# EAGLE library part 736-404 (library con-wago_736)
Serie 736, Doppelstock-Klemmenleiste für Leiterplatten 2 Lötstifte um das halbe Rastermaß versetzt / Series 736, Double-deck PCB terminal strip 2 solder pins staggered by half the pin spacing Polzahl / Pole No.: 4 Rastermaß / Pitch: 5.08 mm Bemessungsspannung / Rated Voltage: 320 V Nennstrom / Nominal Current: 21 A Leiterquerschnitt / Conductor Size: 0.08 - 2.5 mm² Anschlusstechnik / Connection Technology: CAGE CLAMP® Lötstiftlänge: / Solder Pin Length: 4 mm Leitereinführung (zur Platine) / Conductor entry angle (to PCB): 45 ° Farbe / Color: orange / orange Stand: 01.01.2012. Die jeweils aktuellen Daten zu diesem Artikel finden Sie in unserem Produktkatalog, den Sie unter www.wago.com einsehen können. As of: 01/01/2012. Please find the newest data for this article in our product catalogue, which can be viewed under www.wago.com.
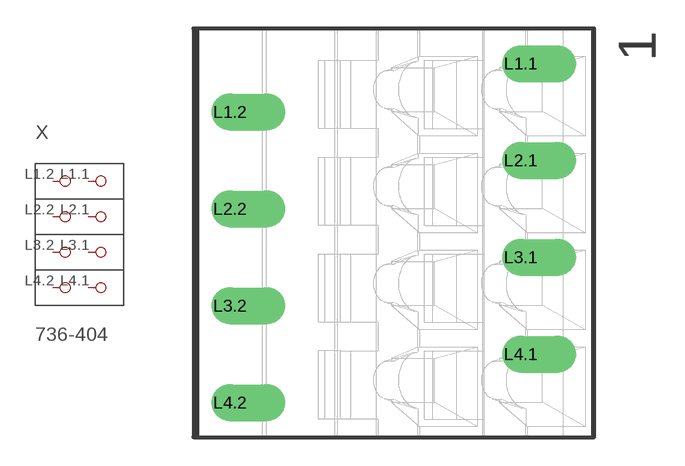
[diagram p44: symbol with the pads of P-736-404; footprint P-736-404]

Designator prefix X

## 736-404  [P-736-404]
L1.1  P1.1
L1.2  P1.2
L2.1  P2.1
L2.2  P2.2
L3.1  P3.1
L3.2  P3.2
L4.1  P4.1
L4.2  P4.2

## Footprint P-736-404 (pad centres in mm)
drill 1.3 offset: L1.1 6.64,8.87; L1.2 -8.6,6.33; L2.1 6.64,3.79; L2.2 -8.6,1.25; L3.1 6.64,-1.29; L3.2 -8.6,-3.83; L4.1 6.64,-6.37; L4.2 -8.6,-8.91